# EAGLE library part PIC16F877A-I/PT (library Microcontroller)
IC MCU 8BIT 14KB FLASH 44TQFP Manufacturer's datasheet <https://ww1.microchip.com/downloads/en/DeviceDoc/39582C.pdf>
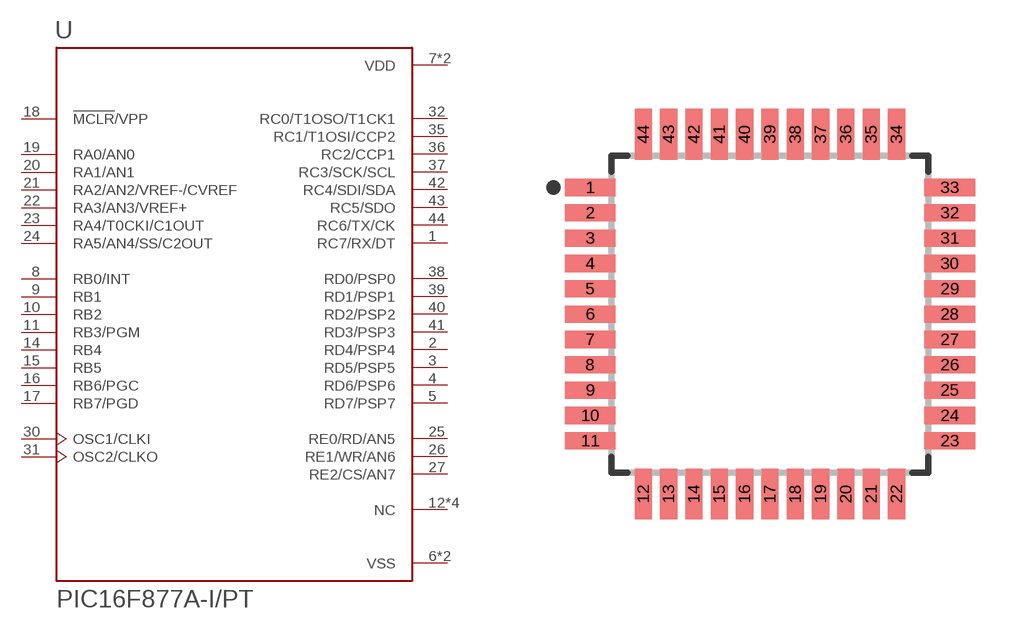
[diagram p1: symbol with the pads of TQFP44; footprint TQFP44]

Designator prefix U

## PIC16F877A-I/PT (CREATED_BY: PCBLayout.com; DIGIKEY_PARTNO: PIC16F877A-I/PT-ND; MANUFACTURER: Microchip Technology; MPN: PIC16F877A-I/PT)  [TQFP44]
1  RC7/RX/DT
2  RD4/PSP4
3  RD5/PSP5
4  RD6/PSP6
5  RD7/PSP7
6  VSS  pwr
7  VDD  pwr
8  RB0/INT
9  RB1
10  RB2
11  RB3/PGM
12  NC  nc
13  NC  nc
14  RB4
15  RB5
16  RB6/PGC
17  RB7/PGD
18  !MCLR!/VPP  pwr
19  RA0/AN0
20  RA1/AN1
21  RA2/AN2/VREF-/CVREF
22  RA3/AN3/VREF+
23  RA4/T0CKI/C1OUT
24  RA5/AN4/SS/C2OUT
25  RE0/RD/AN5
26  RE1/WR/AN6
27  RE2/CS/AN7
28  VDD  pwr
29  VSS  pwr
30  OSC1/CLKI  in
31  OSC2/CLKO  out
32  RC0/T1OSO/T1CK1
33  NC  nc
34  NC  nc
35  RC1/T1OSI/CCP2
36  RC2/CCP1
37  RC3/SCK/SCL
38  RD0/PSP0
39  RD1/PSP1
40  RD2/PSP2
41  RD3/PSP3
42  RC4/SDI/SDA
43  RC5/SDO
44  RC6/TX/CK

## Footprint TQFP44 (pad centres in mm)
smd 1.6 x 0.54: 1 -5.68,4; 2 -5.68,3.2; 3 -5.68,2.4; 4 -5.68,1.6; 5 -5.68,0.8; 6 -5.68,0; 7 -5.68,-0.8; 8 -5.68,-1.6; 9 -5.68,-2.4; 10 -5.68,-3.2; 11 -5.68,-4; 23 5.68,-4; 24 5.68,-3.2; 25 5.68,-2.4; 26 5.68,-1.6; 27 5.68,-0.8; 28 5.68,0; 29 5.68,0.8; 30 5.68,1.6; 31 5.68,2.4; 32 5.68,3.2; 33 5.68,4
smd 0.54 x 1.6: 12 -4,-5.68; 13 -3.2,-5.68; 14 -2.4,-5.68; 15 -1.6,-5.68; 16 -0.8,-5.68; 17 0,-5.68; 18 0.8,-5.68; 19 1.6,-5.68; 20 2.4,-5.68; 21 3.2,-5.68; 22 4,-5.68; 34 4,5.68; 35 3.2,5.68; 36 2.4,5.68; 37 1.6,5.68; 38 0.8,5.68; 39 0,5.68; 40 -0.8,5.68; 41 -1.6,5.68; 42 -2.4,5.68; 43 -3.2,5.68; 44 -4,5.68